# Altium footprint library PcbLib1.PcbLib: 2 footprints
Each footprint in its own frame and in the unit in brackets; x right, y up, seen from the top. Pads: shape width x height; smd on the part's side, far side on the other; paste and mask are expansions set on the pad; w line width, h text height; cw(c..) or ccw(c..) is an arc to the next point about the centre after c.
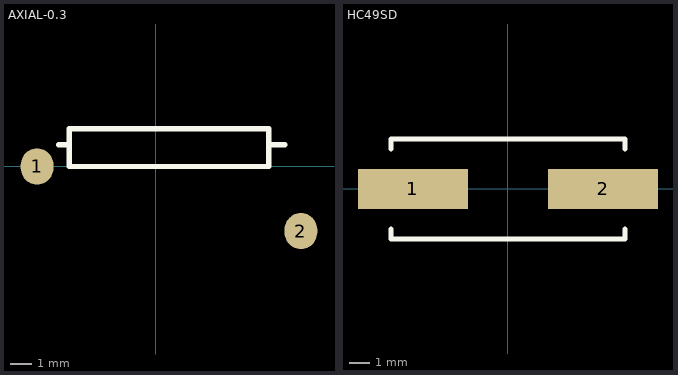
[diagram p0: the footprints below, top view; thin cyan lines are the x and y axes]

## AXIAL-0.3 [mm]
pads (2):
  oval 1.52x1.68 all layers, no hole: 1(-5.5,0) 2(6.75,-3)
Top Overlay:
  lines w0.254: -4.5,1 -4,1 ; 5.25,1 6,1 ; -4,0 5.25,0 5.25,1.75 -4,1.75 -4,0

## HC49SD [mm] "Quartz"
pads (2):
  rect 5.5x2 smd: 1(-4.75,0) 2(4.75,0)
Top Overlay:
  lines w0.254: -5.85,-2 -5.85,-2.5 5.85,-2.5 5.85,-2 ; -5.85,2 -5.85,2.5 5.85,2.5 5.85,2